# Altium footprint library Resistors_ADJ.PcbLib: 5 footprints
Each footprint in its own frame and in the unit in brackets; x right, y up, seen from the top. Pads: shape width x height; smd on the part's side, far side on the other; paste and mask are expansions set on the pad; w line width, h text height; cw(c..) or ccw(c..) is an arc to the next point about the centre after c.
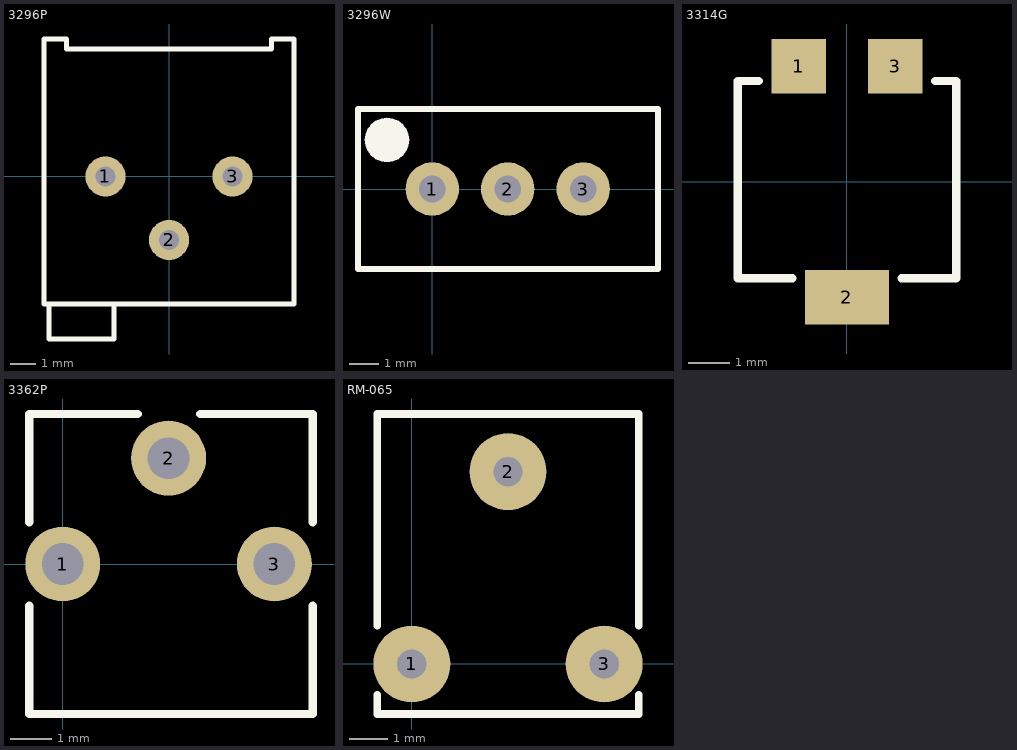
[diagram p0: the footprints below, top view; thin cyan lines are the x and y axes]

## 3296P [mm]
pads (3):
  round 1.6 hole 0.8: 1(-2.54,0) 2(0,-2.54) 3(2.54,0)
Top Overlay:
  lines w0.2: -4.8,-5.1 -4.8,-6.5 -2.2,-6.5 -2.2,-5.1 ; -5,-5.1 -5,5.5 -4.1,5.5 -4.1,5.1 4.1,5.1 4.1,5.5 5,5.5 5,-5.1 -5,-5.1
3D body "3296P.stp": height 4.83, standoff -3, extent -4.765,-6.32 4.765,5.23

## 3296W [mm]
pads (4):
  round 1.8 hole 0.9: 1(0,0) 2(2.54,0) 3(5.08,0)
  round 1.5 on Top Overlay: ""(-1.524,1.651)
Top Overlay:
  lines w0.2: -2.5,-2.7 7.6,-2.7 7.6,2.7 -2.5,2.7 -2.5,-2.7
3D body "User Library-3296W.STEP": height 11.55, standoff -1.6, extent -2.225,-2.4 7.305,2.4

## 3314G [mm]
pads (3):
  rect 1.3x1.3 smd: 1(-1.15,2.75) 3(1.15,2.75)
  rect 2x1.3 smd: 2(0,-2.75)
Top Overlay:
  lines w0.2: -2.1,2.4 -2.6,2.4 -2.6,-2.3 -1.3,-2.3 ; 1.3,-2.3 2.6,-2.3 2.6,2.4 2.1,2.4
3D body "3314g-1-103e.stp": height 2.72, standoff -0.01, extent -2.499,-3.049 2.5,3.149

## 3362P [mm]
pads (3):
  round 1.8 hole 1: 1(0,0) 2(2.54,2.54) 3(5.08,0)
Top Overlay:
  lines w0.2: -0.8,-1 -0.8,-3.6 6,-3.6 6,-1 ; -0.8,1 -0.8,3.6 1.8,3.6 ; 3.3,3.6 6,3.6 6,1
3D body "User Library-R_3362P.STEP": height 4.5, standoff -3, extent -0.7,-3.49 5.9,3.5

## RM-065 [mm]
pads (3):
  round 2 hole 0.762: 1(0,0) 2(2.5,5) 3(5,0)
Top Overlay:
  lines w0.2: -0.9,-0.8 -0.9,-1.3 5.9,-1.3 5.9,-0.8 ; -0.9,1 -0.9,6.5 5.9,6.5 5.9,1
3D body "User Library-RM-065.STEP": height 7.7, standoff -3.1, extent -0.75,-0.843 5.75,6.4